# Altium integrated library R23.IntLib: 1 symbol
Pins are listed as number, name and electrical type; pins without a type are passive.

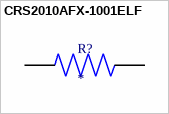
[diagram p0: symbol CRS2010AFX-1001ELF]

## CRS2010AFX-1001ELF
designator R?
MP: CRS2010AFX-1001ELF; Package: None; Price: None; Value: *; Availability: Unavailable
footprint RESC5025X70N
pins: 1, 2